# Altium schematic symbol library CS4270-CZZR.SchLib: 1 symbol
Pins are listed as number, name and electrical type; pins without a type are passive.

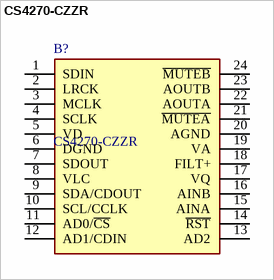
[diagram p0: symbol CS4270-CZZR]

## CS4270-CZZR
designator B?
Interface - CODECs IC 105dB 192kHz Stereo Codec; Manufacturer_Name: Cirrus Logic; Geometry.Height: 1.2mm; Mouser Part Number: 777-CS4270-CZZR; Mouser Price/Stock: https://www.mouser.co.uk/ProductDetail/Cirrus-Logic/CS4270-CZZR?qs=bUPhaerQQeGUCIrqegOqfg%3D%3D; Manufacturer_Part_Number: CS4270-CZZR; Datasheet Link: *
footprint SOP65P640X120-24N
pins: 1 SDIN, 2 LRCK, 3 MCLK, 4 SCLK, 5 VD, 6 DGND, 7 SDOUT, 8 VLC, 9 SDA/CDOUT, 10 SCL/CCLK, 11 AD0/~{CS}, 12 AD1/CDIN, 13 AD2, 14 ~{RST}, 15 AINA, 16 AINB, 17 VQ, 18 FILT+, 19 VA, 20 AGND, 21 ~{MUTEA}, 22 AOUTA, 23 AOUTB, 24 ~{MUTEB}